# Altium schematic symbol library stm32.SchLib: 53 symbols
Pins are listed as number, name and electrical type; pins without a type are passive.

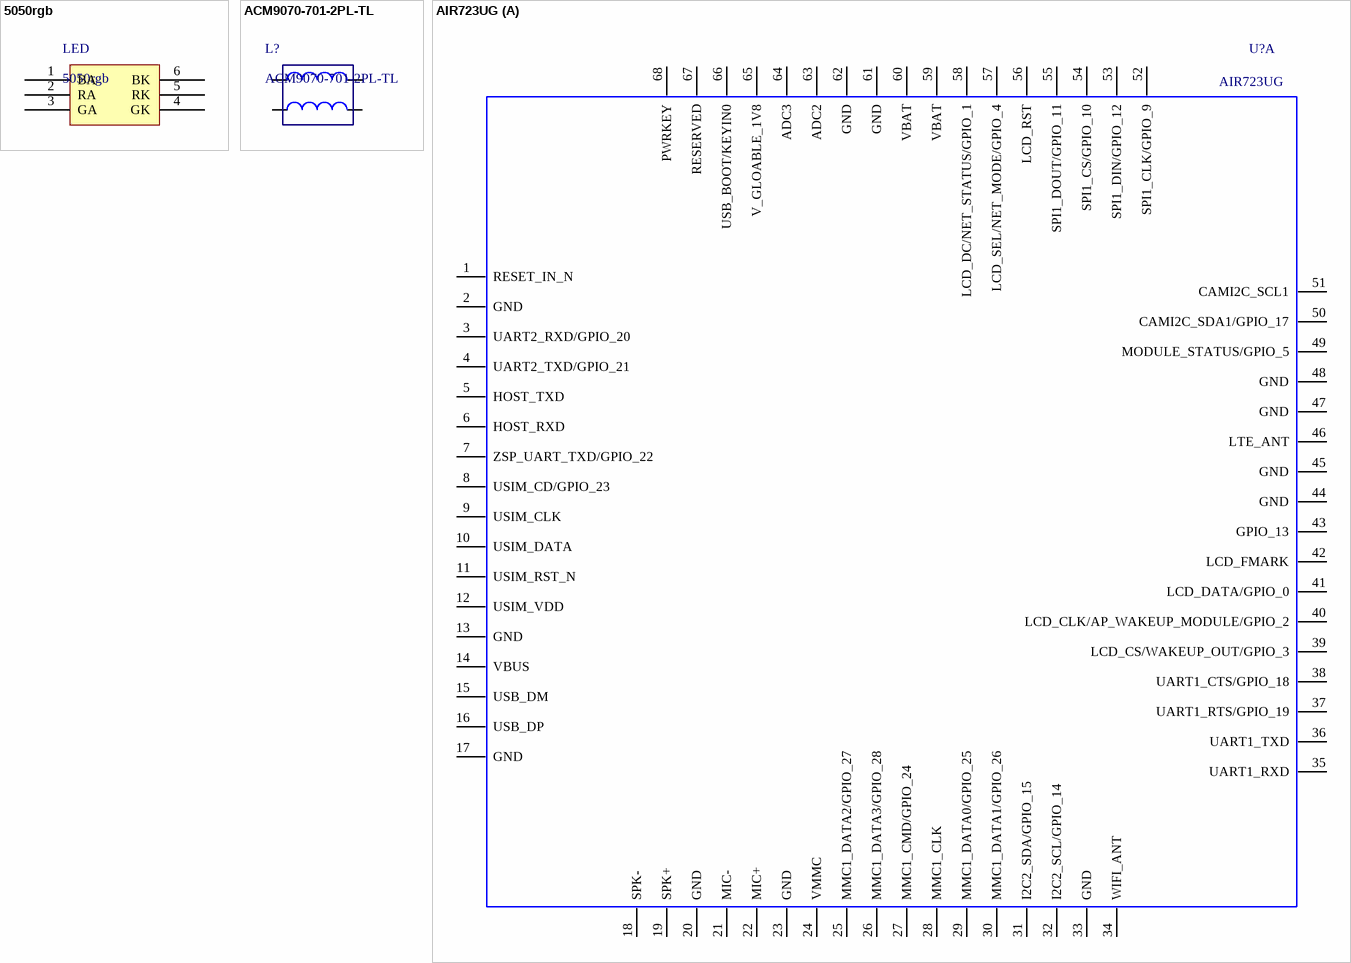
[diagram p0: symbols 5050rgb to AIR723UG]

## 5050rgb
designator LED
pins: 1 BA, 2 RA, 3 GA, 4 GK, 5 RK, 6 BK

## ACM9070-701-2PL-TL
designator L?
pins: 1, 2, 3, 4

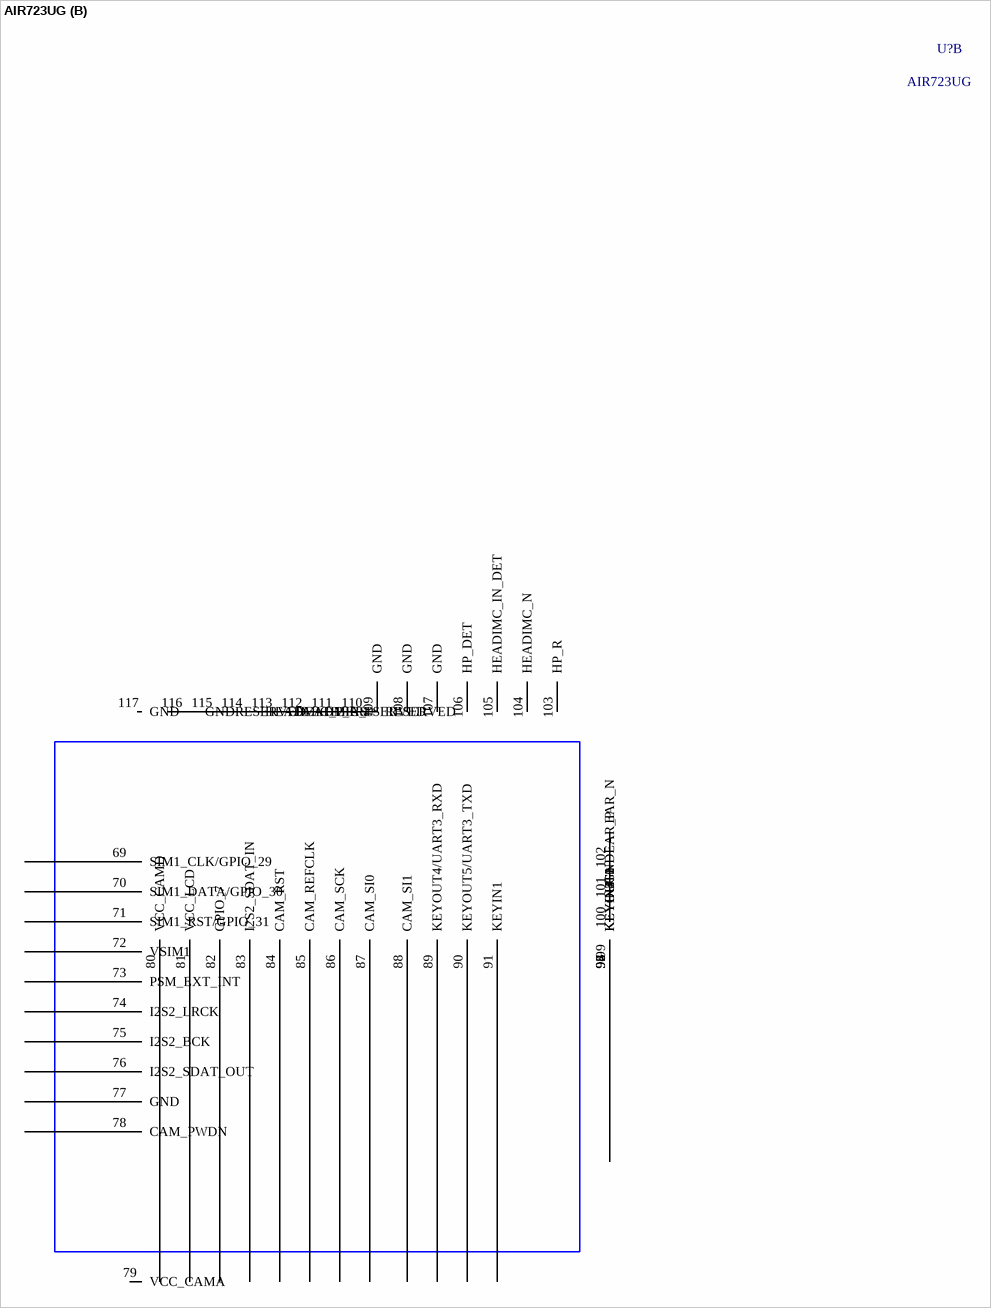
[diagram p1: symbol AIR723UG]

## AIR723UG
designator U?
Air723UG;23.0*23.0*2.3mm; Manufacture 1: AirM2M; Geometry.Height: 2.3mm; Manufacture 1 P/N: Air723UG; PCB DECAL: AIR723UG
part A pins: 1 RESET_IN_N, 2 GND, 3 UART2_RXD/GPIO_20, 4 UART2_TXD/GPIO_21, 5 HOST_TXD, 6 HOST_RXD, 7 ZSP_UART_TXD/GPIO_22, 8 USIM_CD/GPIO_23, 9 USIM_CLK, 10 USIM_DATA, 11 USIM_RST_N, 12 USIM_VDD, 13 GND, 14 VBUS, 15 USB_DM, 16 USB_DP, 17 GND, 18 SPK-, 19 SPK+, 20 GND, 21 MIC-, 22 MIC+, 23 GND, 24 VMMC, 25 MMC1_DATA2/GPIO_27, 26 MMC1_DATA3/GPIO_28, 27 MMC1_CMD/GPIO_24, 28 MMC1_CLK, 29 MMC1_DATA0/GPIO_25, 30 MMC1_DATA1/GPIO_26, 31 I2C2_SDA/GPIO_15, 32 I2C2_SCL/GPIO_14, 33 GND, 34 WIFI_ANT, 35 UART1_RXD, 36 UART1_TXD, 37 UART1_RTS/GPIO_19, 38 UART1_CTS/GPIO_18, 39 LCD_CS/WAKEUP_OUT/GPIO_3, 40 LCD_CLK/AP_WAKEUP_MODULE/GPIO_2, 41 LCD_DATA/GPIO_0, 42 LCD_FMARK, 43 GPIO_13, 44 GND, 45 GND, 46 LTE_ANT, 47 GND, 48 GND, 49 MODULE_STATUS/GPIO_5, 50 CAMI2C_SDA1/GPIO_17, 51 CAMI2C_SCL1, 52 SPI1_CLK/GPIO_9, 53 SPI1_DIN/GPIO_12, 54 SPI1_CS/GPIO_10, 55 SPI1_DOUT/GPIO_11, 56 LCD_RST, 57 LCD_SEL/NET_MODE/GPIO_4, 58 LCD_DC/NET_STATUS/GPIO_1, 59 VBAT, 60 VBAT, 61 GND, 62 GND, 63 ADC2, 64 ADC3, 65 V_GLOABLE_1V8, 66 USB_BOOT/KEYIN0, 67 RESERVED, 68 PWRKEY
part B pins: 69 SIM1_CLK/GPIO_29, 70 SIM1_DATA/GPIO_30, 71 SIM1_RST/GPIO_31, 72 VSIM1, 73 PSM_EXT_INT, 74 I2S2_LRCK, 75 I2S2_BCK, 76 I2S2_SDAT_OUT, 77 GND, 78 CAM_PWDN, 79 VCC_CAMA, 80 VCC_CAMD, 81 VCC_LCD, 82 GPIO_7, 83 I2S2_SDAT_IN, 84 CAM_RST, 85 CAM_REFCLK, 86 CAM_SCK, 87 CAM_SI0, 88 CAM_SI1, 89 KEYOUT4/UART3_RXD, 90 KEYOUT5/UART3_TXD, 91 KEYIN1, 92 KEYIN2, 93 KEYIN3, 94 KEYIN4, 95 KEYIN5, 96 KEYOUT0, 97 KEYOUT1, 98 KEYOUT2, 99 KEYOUT3, 100 GND, 101 EAR_P, 102 EAR_N, 103 HP_R, 104 HEADIMC_N, 105 HEADIMC_IN_DET, 106 HP_DET, 107 GND, 108 GND, 109 GND, 110 RESERVED, 111 RESERVED, 112 HP_L, 113 HEADMIC_P, 114 HEADMIC_BIAS, 115 RESERVED, 116 GND, 117 GND

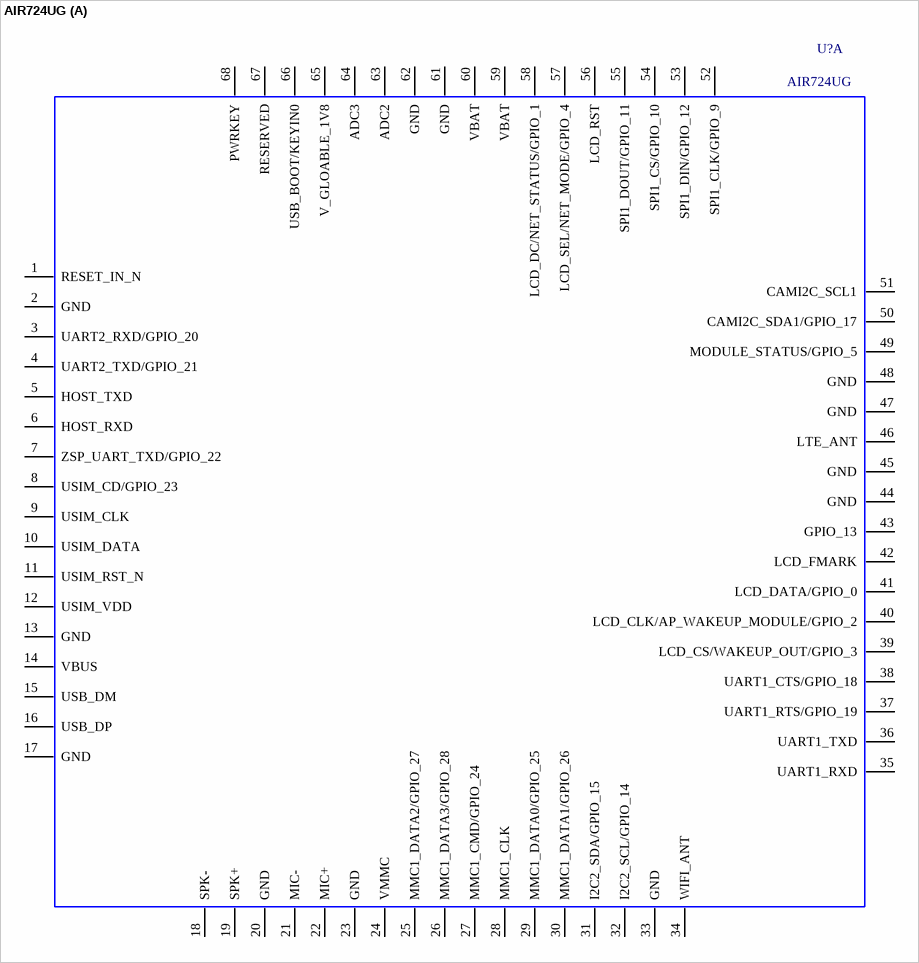
[diagram p2: symbol AIR724UG]

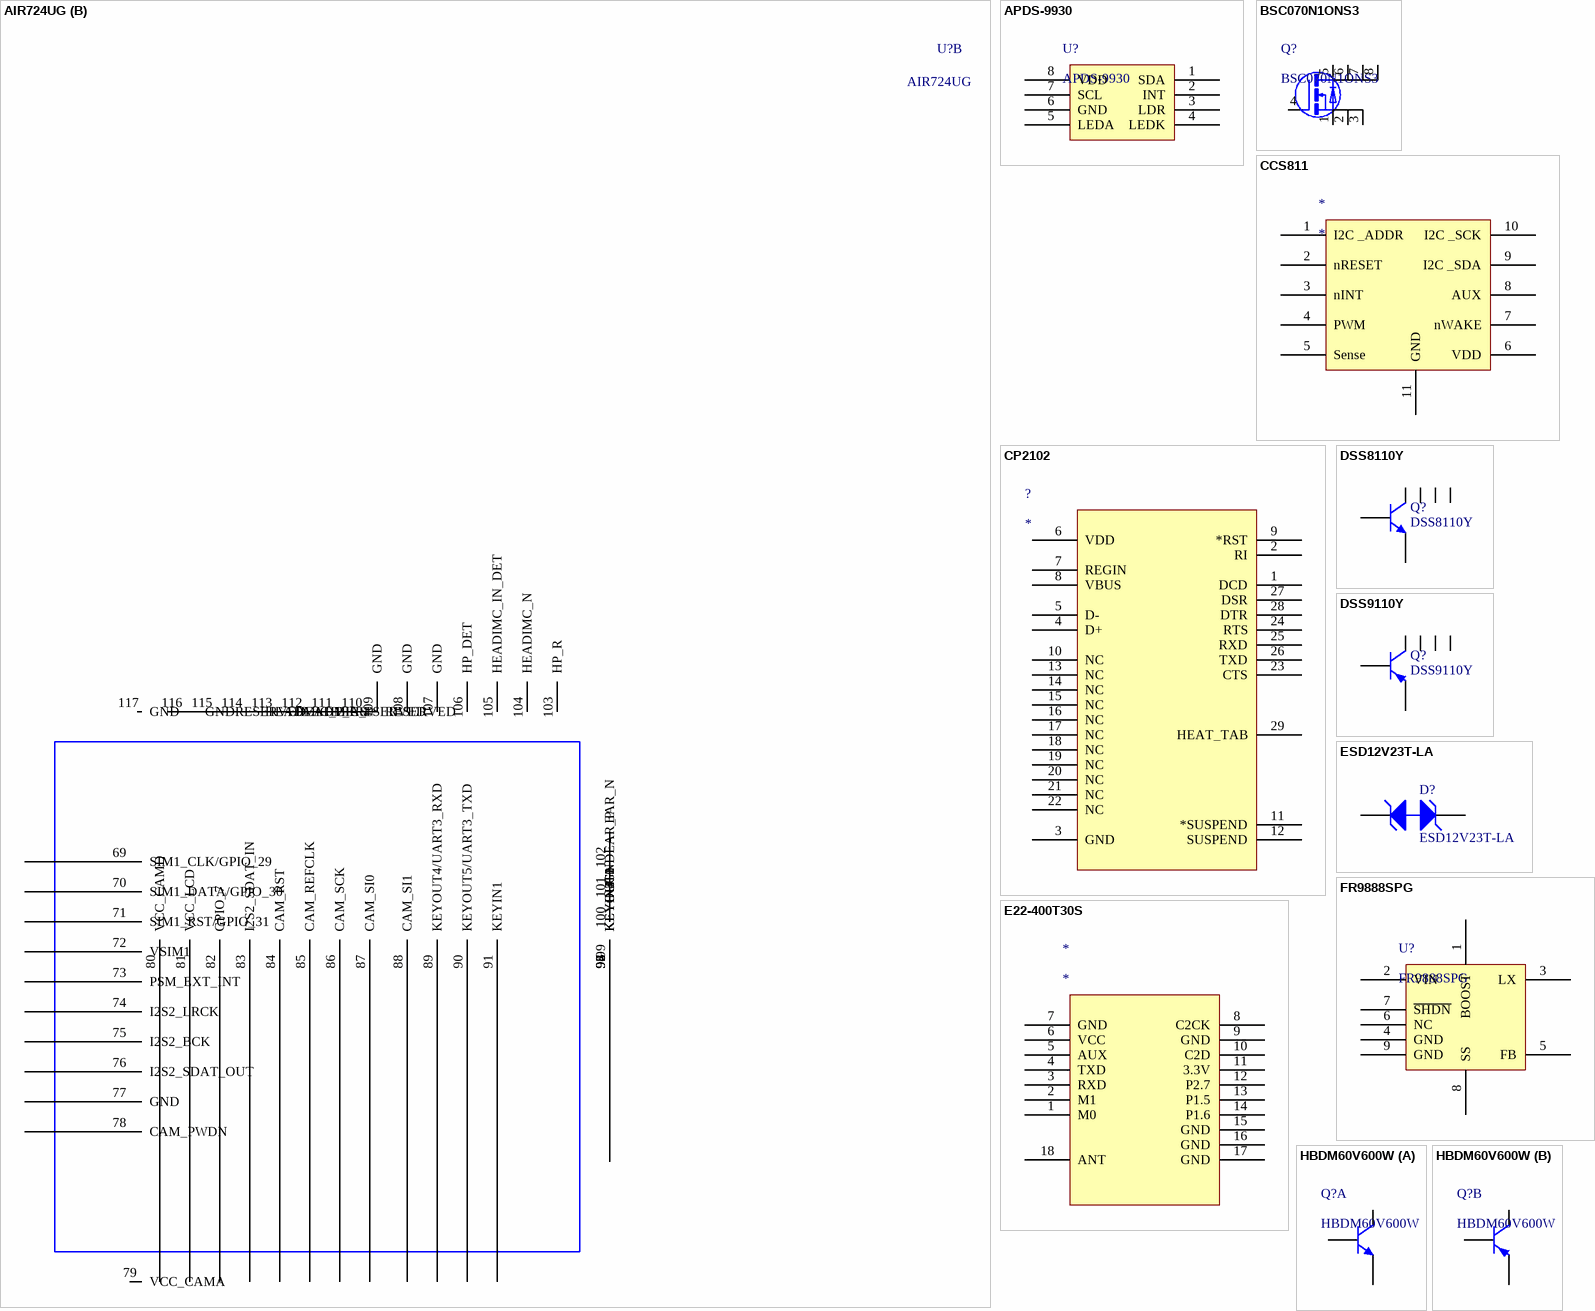
[diagram p3: symbols AIR724UG to HBDM60V600W]

## AIR724UG
designator U?
Manufacture 1: AirM2M; Geometry.Height: 2.3mm; Manufacture 1 P/N: Air724UG; Description: Air724UG; PCB DECAL: AIR724UG
part A pins: 1 RESET_IN_N, 2 GND, 3 UART2_RXD/GPIO_20, 4 UART2_TXD/GPIO_21, 5 HOST_TXD, 6 HOST_RXD, 7 ZSP_UART_TXD/GPIO_22, 8 USIM_CD/GPIO_23, 9 USIM_CLK, 10 USIM_DATA, 11 USIM_RST_N, 12 USIM_VDD, 13 GND, 14 VBUS, 15 USB_DM, 16 USB_DP, 17 GND, 18 SPK-, 19 SPK+, 20 GND, 21 MIC-, 22 MIC+, 23 GND, 24 VMMC, 25 MMC1_DATA2/GPIO_27, 26 MMC1_DATA3/GPIO_28, 27 MMC1_CMD/GPIO_24, 28 MMC1_CLK, 29 MMC1_DATA0/GPIO_25, 30 MMC1_DATA1/GPIO_26, 31 I2C2_SDA/GPIO_15, 32 I2C2_SCL/GPIO_14, 33 GND, 34 WIFI_ANT, 35 UART1_RXD, 36 UART1_TXD, 37 UART1_RTS/GPIO_19, 38 UART1_CTS/GPIO_18, 39 LCD_CS/WAKEUP_OUT/GPIO_3, 40 LCD_CLK/AP_WAKEUP_MODULE/GPIO_2, 41 LCD_DATA/GPIO_0, 42 LCD_FMARK, 43 GPIO_13, 44 GND, 45 GND, 46 LTE_ANT, 47 GND, 48 GND, 49 MODULE_STATUS/GPIO_5, 50 CAMI2C_SDA1/GPIO_17, 51 CAMI2C_SCL1, 52 SPI1_CLK/GPIO_9, 53 SPI1_DIN/GPIO_12, 54 SPI1_CS/GPIO_10, 55 SPI1_DOUT/GPIO_11, 56 LCD_RST, 57 LCD_SEL/NET_MODE/GPIO_4, 58 LCD_DC/NET_STATUS/GPIO_1, 59 VBAT, 60 VBAT, 61 GND, 62 GND, 63 ADC2, 64 ADC3, 65 V_GLOABLE_1V8, 66 USB_BOOT/KEYIN0, 67 RESERVED, 68 PWRKEY
part B pins: 69 SIM1_CLK/GPIO_29, 70 SIM1_DATA/GPIO_30, 71 SIM1_RST/GPIO_31, 72 VSIM1, 73 PSM_EXT_INT, 74 I2S2_LRCK, 75 I2S2_BCK, 76 I2S2_SDAT_OUT, 77 GND, 78 CAM_PWDN, 79 VCC_CAMA, 80 VCC_CAMD, 81 VCC_LCD, 82 GPIO_7, 83 I2S2_SDAT_IN, 84 CAM_RST, 85 CAM_REFCLK, 86 CAM_SCK, 87 CAM_SI0, 88 CAM_SI1, 89 KEYOUT4/UART3_RXD, 90 KEYOUT5/UART3_TXD, 91 KEYIN1, 92 KEYIN2, 93 KEYIN3, 94 KEYIN4, 95 KEYIN5, 96 KEYOUT0, 97 KEYOUT1, 98 KEYOUT2, 99 KEYOUT3, 100 GND, 101 EAR_P, 102 EAR_N, 103 HP_R, 104 HEADIMC_N, 105 HEADIMC_IN_DET, 106 HP_DET, 107 GND, 108 GND, 109 GND, 110 RESERVED, 111 RESERVED, 112 HP_L, 113 HEADMIC_P, 114 HEADMIC_BIAS, 115 RESERVED, 116 GND, 117 GND

## APDS-9930
designator U?
pins: 1 SDA, 2 INT, 3 LDR, 4 LEDK, 5 LEDA, 6 GND, 7 SCL, 8 VDD

## BSC070N1ONS3
designator Q?
pins: 1 D, 2 D, 3 D, 4 G, 5 S, 6 D, 7 D1, 8 D1

## CCS811
designator *
footprint QFN60P270X400X80-10N (QFN, 10-Leads, Body 4.0x2.7mm (max), Pitch 0.60mm, IPC Medium Density)
pins: 1 I2C _ADDR, 2 nRESET, 3 nINT, 4 PWM, 5 Sense, 6 VDD, 7 nWAKE, 8 AUX, 9 I2C _SDA, 10 I2C _SCK, 11 GND

## CP2102
designator ?
Imported; PART DESC: SINGLE-CHIP USB TO UART BRIDGE, QFN28, RoHS.; PART NUMBER: CP2102; MFG #1: SILICON LABS; Value: Value; RefDes: RefDes; Type: DEV
footprint QFN28N5X5-0p5P-L
pins: 1 DCD, 2 RI, 3 GND, 4 D+, 5 D-, 6 VDD, 7 REGIN, 8 VBUS, 9 *RST, 10 NC, 11 *SUSPEND, 12 SUSPEND, 13 NC, 14 NC, 15 NC, 16 NC, 17 NC, 18 NC, 19 NC, 20 NC, 21 NC, 22 NC, 23 CTS, 24 RTS, 25 RXD, 26 TXD, 27 DSR, 28 DTR, 29 HEAT_TAB

## DSS8110Y
designator Q?
NPN Bipolar Transistor; Published: 8-Jun-2000; LatestRevisionDate: 17-Jul-2002; LatestRevisionNote: Re-released for DXP Platform.; PackageReference: TO-226; Publisher: Altium Limited; Code_JEDEC: TO-226-AA
footprint SOT363
simulation model NPN
signal-integrity model NPN
pins: 1 C, 2 C, 3 B, 4 E, 5 C, 6 C

## DSS9110Y
designator Q?
NPN Bipolar Transistor; Published: 8-Jun-2000; LatestRevisionDate: 17-Jul-2002; LatestRevisionNote: Re-released for DXP Platform.; PackageReference: TO-226; Publisher: Altium Limited; Code_JEDEC: TO-226-AA
footprint SOT363
simulation model NPN
signal-integrity model NPN
pins: 1 C, 2 C, 3 B, 4 E, 5 C, 6 C

## E22-400T30S
designator *
pins: 1 M0, 2 M1, 3 RXD, 4 TXD, 5 AUX, 6 VCC, 7 GND, 8 C2CK, 9 GND, 10 C2D, 11 3.3V, 12 P2.7, 13 P1.5, 14 P1.6, 15 GND, 16 GND, 17 GND, 18 ANT

## ESD12V23T-LA
designator D?
Published: 8-Jun-2000; LatestRevisionDate: 17-Jul-2002; LatestRevisionNote: Re-released for DXP Platform.; PackageReference: DIODE-0.7; Publisher: Altium Limited
footprint DIODE-0.7 (Diode, Thru-Hole; 2 Leads; 0.7 in Pin Spacing)
simulation model ZENER (Diode)
signal-integrity model D Zener
pins: 1 A, 2 K

## FR9888SPG
designator U?
footprint SOP8
pins: 1 BOOST, 2 VIN, 3 LX, 4 GND, 5 FB, 6 NC, 7 ~{SHDN}, 8 SS, 9 GND

## HBDM60V600W
designator Q?
part A pins: 1 E, 2 B, 6 C
part B pins: 3 C, 4 E, 5 B

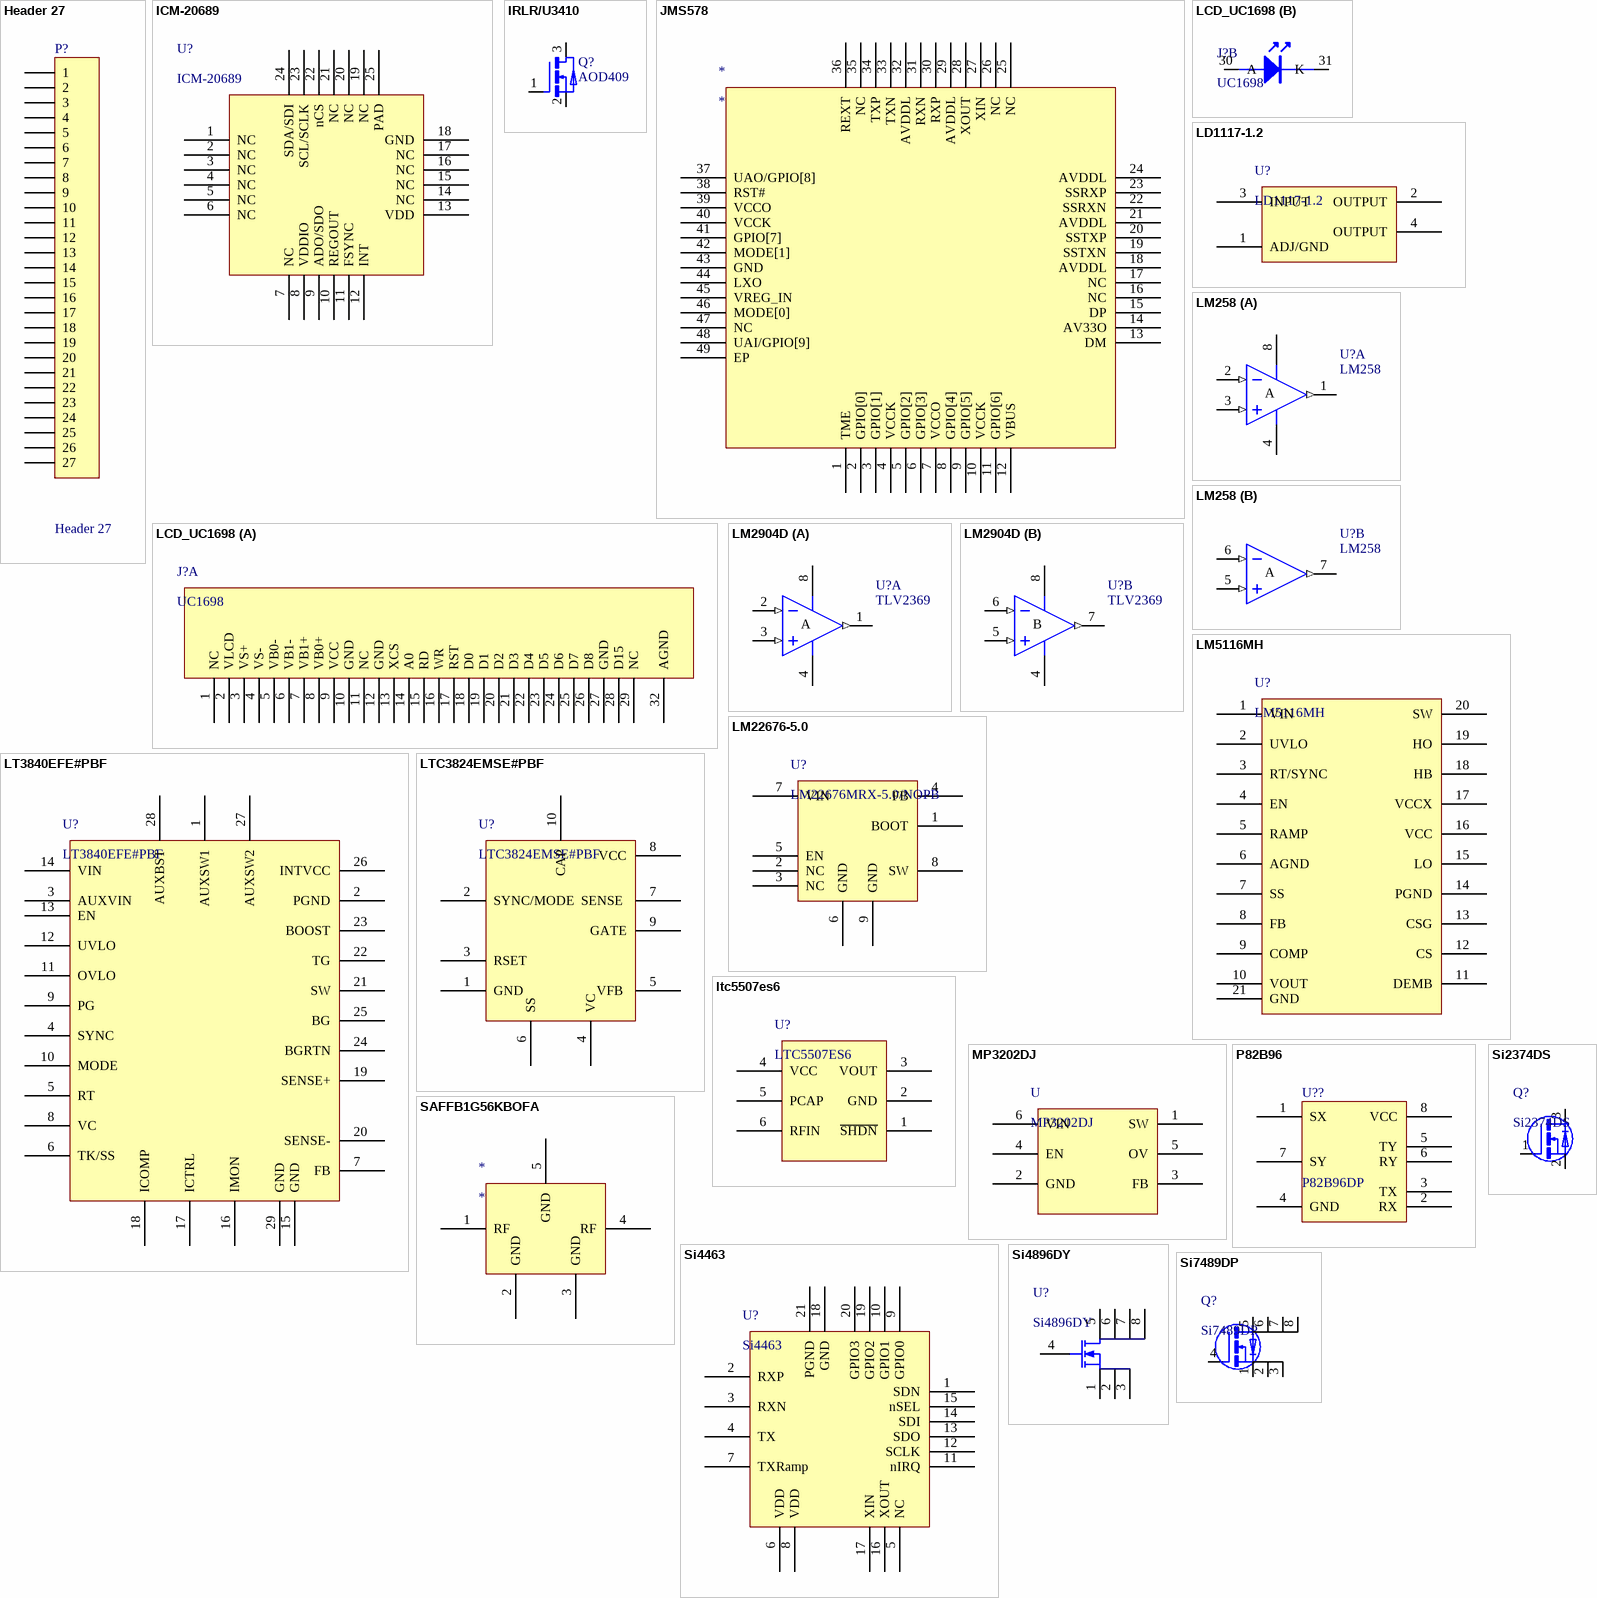
[diagram p4: symbols Header 27 to Si7489DP]

## Header 27
designator P?
Header, 27-Pin; LatestRevisionDate: 17-Jul-2002; LatestRevisionNote: Re-released for DXP Platform.; Publisher: Altium Limited
footprint Hearder2 27
signal-integrity model Connector
pins: 1, 2, 3, 4, 5, 6, 7, 8, 9, 10, 11, 12, 13, 14, 15, 16, 17, 18, 19, 20, 21, 22, 23, 24, 25, 26, 27

## ICM-20689
designator U?
pins: 1 NC, 2 NC, 3 NC, 4 NC, 5 NC, 6 NC, 7 NC, 8 VDDIO, 9 ADO/SDO, 10 REGOUT, 11 FSYNC, 12 INT, 13 VDD, 14 NC, 15 NC, 16 NC, 17 NC, 18 GND, 19 NC, 20 NC, 21 NC, 22 nCS, 23 SCL/SCLK, 24 SDA/SDI, 25 PAD

## IRLR/U3410
designator Q?, comment AOD409
footprint TO252(123)
pins: 1 G, 2 D, 3 S

## JMS578
designator *
pins: 1 TME, 2 GPIO[0], 3 GPIO[1], 4 VCCK, 5 GPIO[2], 6 GPIO[3], 7 VCCO, 8 GPIO[4] , 9 GPIO[5] , 10 VCCK, 11 GPIO[6] , 12 VBUS, 13 DM, 14 AV33O, 15 DP, 16 NC, 17 NC, 18 AVDDL, 19 SSTXN, 20 SSTXP, 21 AVDDL, 22 SSRXN, 23 SSRXP, 24 AVDDL, 25 NC, 26 NC, 27 XIN, 28 XOUT, 29 AVDDL, 30 RXP, 31 RXN, 32 AVDDL, 33 TXN, 34 TXP, 35 NC, 36 REXT, 37 UAO/GPIO[8] , 38 RST#, 39 VCCO, 40 VCCK, 41 GPIO[7] , 42 MODE[1] , 43 GND, 44 LXO, 45 VREG_IN, 46 MODE[0] , 47 NC , 48 UAI/GPIO[9] , 49 EP

## LCD_UC1698
designator J?, comment UC1698
part A pins: 1 NC, 2 VLCD, 3 VS+, 4 VS-, 5 VB0-, 6 VB1-, 7 VB1+, 8 VB0+, 9 VCC, 10 GND, 11 NC, 12 GND, 13 XCS, 14 A0, 15 RD, 16 WR, 17 RST, 18 D0, 19 D1, 20 D2, 21 D3, 22 D4, 23 D5, 24 D6, 25 D7, 26 D8, 27 GND, 28 D15, 29 NC, 32 AGND
part B pins: 30 A, 31 K

## LD1117-1.2
designator U?
footprint TO252 (DPAK)
pins: 1 ADJ/GND, 2 OUTPUT, 3 INPUT, 4 OUTPUT

## LM258
designator U?
footprint so-8
part A pins: 1 OUT (out), 2 IN- (in), 3 IN+ (in), 4 V- (power), 8 V+ (power)
part B pins: 5 IN+ (in), 6 IN- (in), 7 OUT (out)
part A text: A
part B text: A

## LM2904D
designator U?, comment TLV2369
Dual Operational Amplifier; Published: 16-Jan-2001; LatestRevisionDate: 13-Apr-2006; LatestRevisionNote: IPC-7351 Footprint Added.; DatasheetVersion: Jul-1998; PackageVersion: Jan-1998; PackageReference: D008; Publisher: Altium Limited; PackageDescription: 8-Pin Small Outline Integrated Circuit 1.27 mm Pitch; Code_IPC: SOIC127P600-8; ComponentLink1Description: Manufacturer Link; ComponentLink1URL: http://www.ti.com/; ComponentLink2Description: Datasheet; ComponentLink2URL: http://www-s.ti.com/sc/ds/lm2904.pdf
footprint so-8
footprint D008_M (SOIC, 8-Leads, Body 4.9x3.9mm, Pitch 1.27mm, IPC Low Density)
footprint D008_M (SOIC, 8-Leads, Body 4.9x3.9mm, Pitch 1.27mm, IPC Low Density)
3D model D008 (8-Pin Small Outline Integrated Circuit 1.27 mm Pitch)
simulation model LM2904 (SUBCKT)
pins on every part: 4 V- (power), 8 V+ (power)
part A pins: 1 OUT (out), 2 IN- (in), 3 IN+ (in)
part B pins: 5 IN+ (in), 6 IN- (in), 7 OUT (out)
part A text: A
part B text: B

## LM5116MH
designator U?
footprint tssop (Footprint not found)
pins: 1 VIN, 2 UVLO, 3 RT/SYNC, 4 EN, 5 RAMP, 6 AGND, 7 SS, 8 FB, 9 COMP, 10 VOUT, 11 DEMB, 12 CS, 13 CSG, 14 PGND, 15 LO, 16 VCC, 17 VCCX, 18 HB, 19 HO, 20 SW, 21 GND

## LM22676-5.0
designator U?, comment LM22676MRX-5.0/NOPB
pins: 1 BOOT, 2 NC, 3 NC, 4 FB, 5 EN, 6 GND, 7 VIN, 8 SW, 9 GND

## LT3840EFE#PBF
designator U?
pins: 1 AUXSW1, 2 PGND, 3 AUXVIN, 4 SYNC, 5 RT, 6 TK/SS, 7 FB, 8 VC, 9 PG, 10 MODE, 11 OVLO, 12 UVLO, 13 EN, 14 VIN, 15 GND, 16 IMON, 17 ICTRL, 18 ICOMP, 19 SENSE+, 20 SENSE-, 21 SW, 22 TG, 23 BOOST, 24 BGRTN, 25 BG, 26 INTVCC, 27 AUXSW2, 28 AUXBST, 29 GND

## LTC3824EMSE#PBF
designator U?
footprint MSOP-10
pins: 1 GND , 2 SYNC/MODE, 3 RSET , 4 VC , 5 VFB , 6 SS, 7 SENSE , 8 VCC, 9 GATE, 10 CAP

## ltc5507es6
designator U?, comment LTC5507ES6
pins: 1 ~{SHDN}, 2 GND, 3 VOUT, 4 VCC, 5 PCAP, 6 RFIN

## MP3202DJ
designator U
footprint SOT23-6 (Footprint not found)
pins: 1 SW, 2 GND, 3 FB, 4 EN, 5 OV, 6 VIN

## P82B96
designator U??, comment P82B96DP
pins: 1 SX, 2 RX, 3 TX, 4 GND, 5 TY, 6 RY, 7 SY, 8 VCC

## SAFFB1G56KBOFA
designator *
pins: 1 RF, 2 GND, 3 GND, 4 RF, 5 GND

## Si2374DS
designator Q?
footprint SOT23-3
pins: 1 G, 2 S, 3 D

## Si4463
designator U?
footprint QFN50P400X400X80-20N (QFN, 20-Leads, Body 4.0x4.0mm (max), Pitch 0.50mm, IPC Medium Density)
pins: 1 SDN, 2 RXP, 3 RXN, 4 TX, 5 NC, 6 VDD, 7 TXRamp, 8 VDD, 9 GPIO0, 10 GPIO1, 11 nIRQ, 12 SCLK, 13 SDO, 14 SDI, 15 nSEL, 16 XOUT, 17 XIN, 18 GND, 19 GPIO2, 20 GPIO3, 21 PGND

## Si4896DY
designator U?
pins: 1 S, 2 S, 3 S, 4 G, 5 D, 6 S, 7 S, 8 S

## Si7489DP
designator Q?
pins: 1 S, 2 S, 3 S, 4 G, 5 D, 6 D, 7 D, 8 D

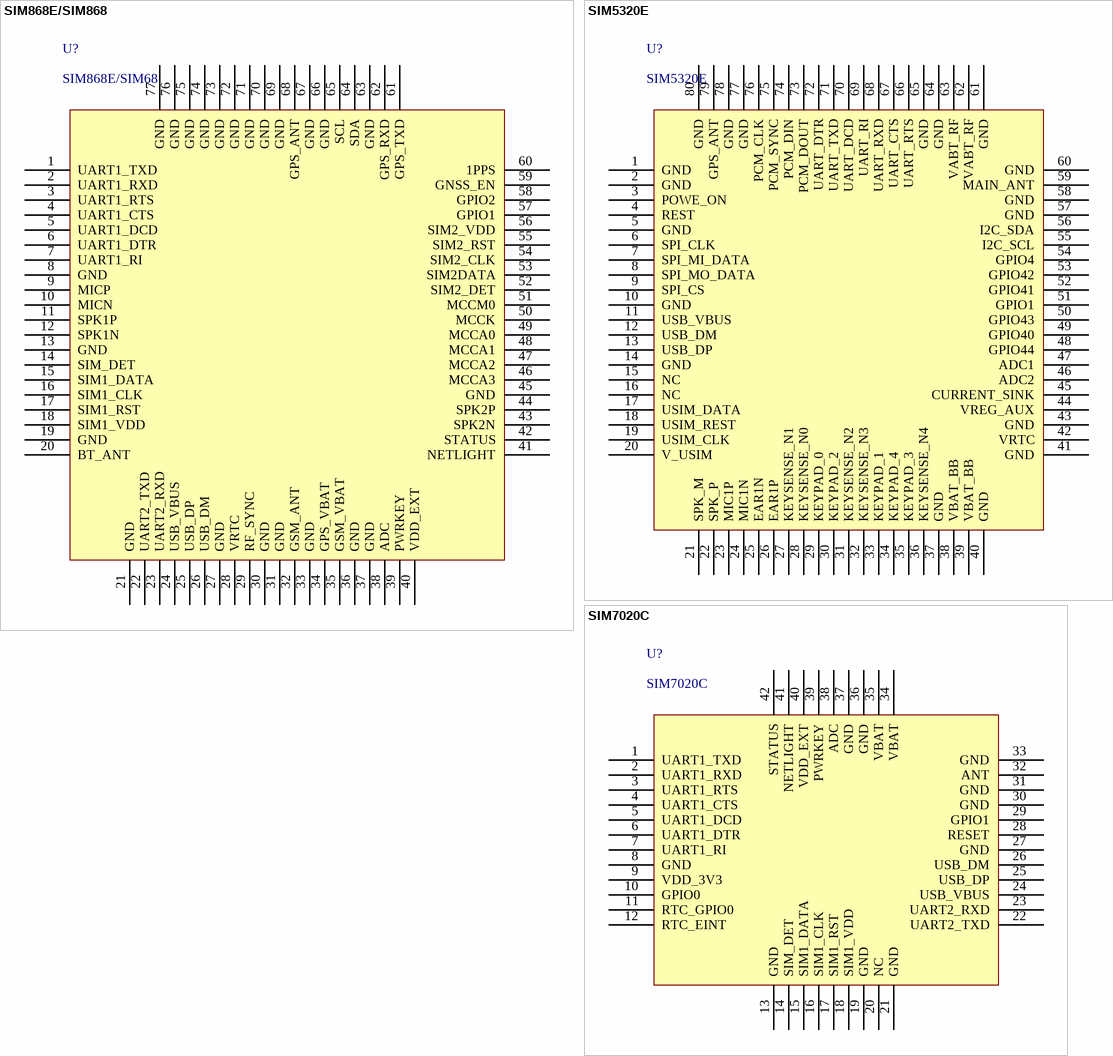
[diagram p5: symbols SIM868E/SIM868 to SIM7020C]

## SIM868E/SIM868
designator U?, comment SIM868E/SIM68
footprint SIM868 (Footprint not found)
pins: 1 UART1_TXD, 2 UART1_RXD, 3 UART1_RTS, 4 UART1_CTS, 5 UART1_DCD, 6 UART1_DTR, 7 UART1_RI, 8 GND, 9 MICP, 10 MICN, 11 SPK1P, 12 SPK1N, 13 GND, 14 SIM_DET, 15 SIM1_DATA, 16 SIM1_CLK, 17 SIM1_RST, 18 SIM1_VDD, 19 GND, 20 BT_ANT, 21 GND, 22 UART2_TXD, 23 UART2_RXD, 24 USB_VBUS, 25 USB_DP, 26 USB_DM, 27 GND, 28 VRTC, 29 RF_SYNC, 30 GND, 31 GND, 32 GSM_ANT, 33 GND, 34 GPS_VBAT, 35 GSM_VBAT, 36 GND, 37 GND, 38 ADC, 39 PWRKEY, 40 VDD_EXT, 41 NETLIGHT, 42 STATUS, 43 SPK2N, 44 SPK2P, 45 GND, 46 MCCA3, 47 MCCA2, 48 MCCA1, 49 MCCA0, 50 MCCK, 51 MCCM0, 52 SIM2_DET, 53 SIM2DATA, 54 SIM2_CLK, 55 SIM2_RST, 56 SIM2_VDD, 57 GPIO1, 58 GPIO2, 59 GNSS_EN, 60 1PPS, 61 GPS_TXD, 62 GPS_RXD, 63 GND, 64 SDA, 65 SCL, 66 GND, 67 GND, 68 GPS_ANT, 69 GND, 70 GND, 71 GND, 72 GND, 73 GND, 74 GND, 75 GND, 76 GND, 77 GND

## SIM5320E
designator U?
pins: 1 GND, 2 GND, 3 POWE_ON, 4 REST, 5 GND, 6 SPI_CLK, 7 SPI_MI_DATA, 8 SPI_MO_DATA, 9 SPI_CS, 10 GND, 11 USB_VBUS, 12 USB_DM, 13 USB_DP, 14 GND, 15 NC, 16 NC, 17 USIM_DATA, 18 USIM_REST, 19 USIM_CLK, 20 V_USIM, 21 SPK_M, 22 SPK_P, 23 MIC1P, 24 MIC1N, 25 EAR1N, 26 EAR1P, 27 KEYSENSE_N1, 28 KEYSENSE_N0, 29 KEYPAD_0, 30 KEYPAD_2, 31 KEYSENSE_N2, 32 KEYSENSE_N3, 33 KEYPAD_1, 34 KEYPAD_4, 35 KEYPAD_3, 36 KEYSENSE_N4, 37 GND, 38 VBAT_BB, 39 VBAT_BB, 40 GND, 41 GND, 42 VRTC, 43 GND, 44 VREG_AUX, 45 CURRENT_SINK, 46 ADC2, 47 ADC1, 48 GPIO44, 49 GPIO40, 50 GPIO43, 51 GPIO1, 52 GPIO41, 53 GPIO42, 54 GPIO4, 55 I2C_SCL, 56 I2C_SDA, 57 GND, 58 GND, 59 MAIN_ANT, 60 GND, 61 GND, 62 VABT_RF, 63 VABT_RF, 64 GND, 65 GND, 66 UART_RTS, 67 UART_CTS, 68 UART_RXD, 69 UART_RI, 70 UART_DCD, 71 UART_TXD, 72 UART_DTR, 73 PCM_DOUT, 74 PCM_DIN, 75 PCM_SYNC, 76 PCM_CLK, 77 GND, 78 GND, 79 GPS_ANT, 80 GND

## SIM7020C
designator U?
footprint SIM868 (Footprint not found)
pins: 1 UART1_TXD, 2 UART1_RXD, 3 UART1_RTS, 4 UART1_CTS, 5 UART1_DCD, 6 UART1_DTR, 7 UART1_RI, 8 GND, 9 VDD_3V3, 10 GPIO0, 11 RTC_GPIO0, 12 RTC_EINT, 13 GND, 14 SIM_DET, 15 SIM1_DATA, 16 SIM1_CLK, 17 SIM1_RST, 18 SIM1_VDD, 19 GND, 20 NC, 21 GND, 22 UART2_TXD, 23 UART2_RXD, 24 USB_VBUS, 25 USB_DP, 26 USB_DM, 27 GND, 28 RESET, 29 GPIO1, 30 GND, 31 GND, 32 ANT, 33 GND, 34 VBAT, 35 VBAT, 36 GND, 37 GND, 38 ADC, 39 PWRKEY, 40 VDD_EXT, 41 NETLIGHT, 42 STATUS

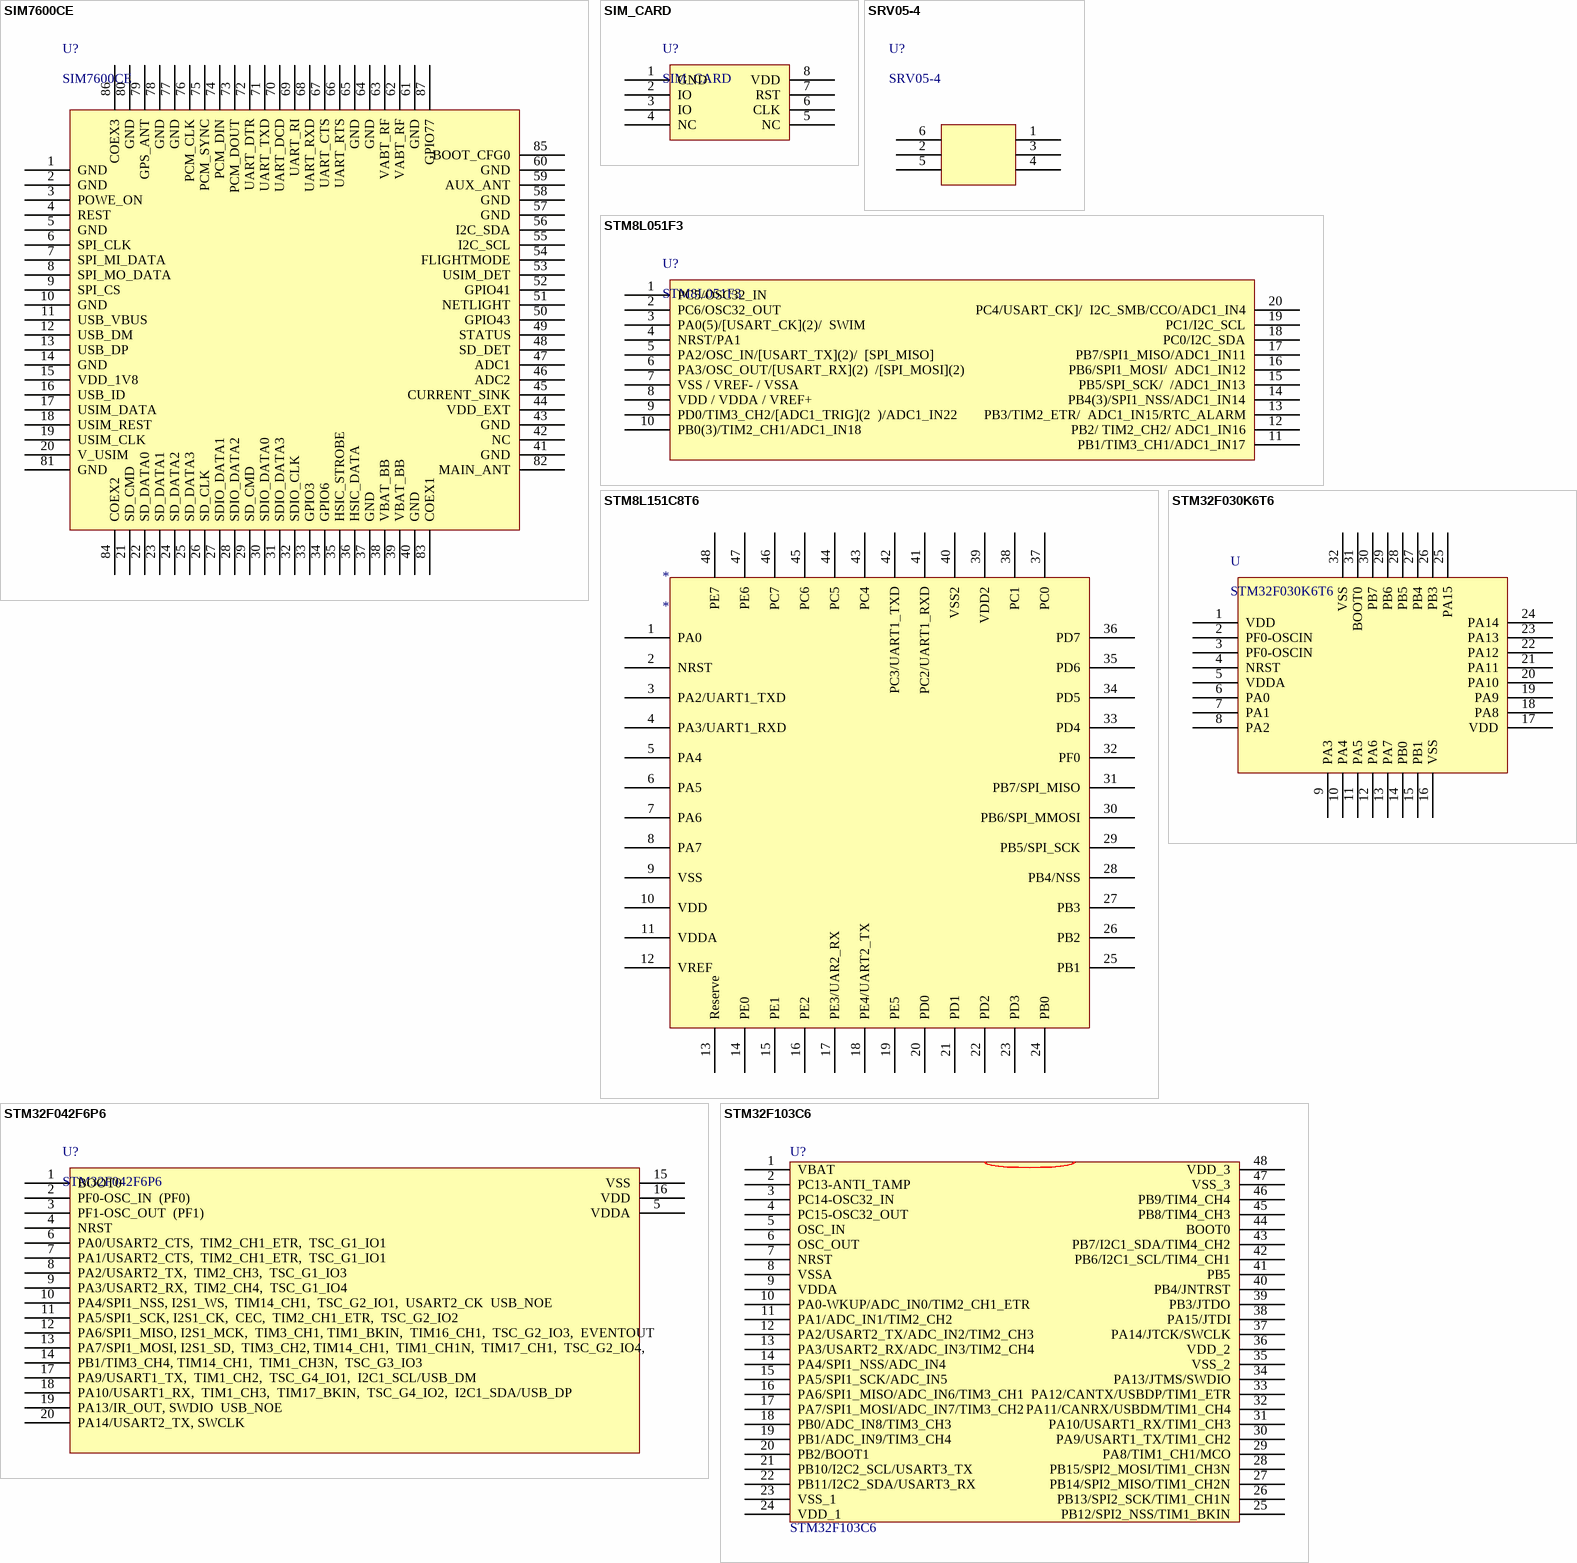
[diagram p6: symbols SIM7600CE to STM32F103C6]

## SIM7600CE
designator U?
pins: 1 GND, 2 GND, 3 POWE_ON, 4 REST, 5 GND, 6 SPI_CLK, 7 SPI_MI_DATA, 8 SPI_MO_DATA, 9 SPI_CS, 10 GND, 11 USB_VBUS, 12 USB_DM, 13 USB_DP, 14 GND, 15 VDD_1V8, 16 USB_ID, 17 USIM_DATA, 18 USIM_REST, 19 USIM_CLK, 20 V_USIM, 21 SD_CMD, 22 SD_DATA0, 23 SD_DATA1, 24 SD_DATA2, 25 SD_DATA3, 26 SD_CLK, 27 SDIO_DATA1, 28 SDIO_DATA2, 29 SD_CMD, 30 SDIO_DATA0, 31 SDIO_DATA3, 32 SDIO_CLK, 33 GPIO3, 34 GPIO6, 35 HSIC_STROBE, 36 HSIC_DATA, 37 GND, 38 VBAT_BB, 39 VBAT_BB, 40 GND, 41 GND, 42 NC, 43 GND, 44 VDD_EXT, 45 CURRENT_SINK, 46 ADC2, 47 ADC1, 48 SD_DET, 49 STATUS, 50 GPIO43, 51 NETLIGHT, 52 GPIO41, 53 USIM_DET, 54 FLIGHTMODE, 55 I2C_SCL, 56 I2C_SDA, 57 GND, 58 GND, 59 AUX_ANT, 60 GND, 61 GND, 62 VABT_RF, 63 VABT_RF, 64 GND, 65 GND, 66 UART_RTS, 67 UART_CTS, 68 UART_RXD, 69 UART_RI, 70 UART_DCD, 71 UART_TXD, 72 UART_DTR, 73 PCM_DOUT, 74 PCM_DIN, 75 PCM_SYNC, 76 PCM_CLK, 77 GND, 78 GND, 79 GPS_ANT, 80 GND, 81 GND, 82 MAIN_ANT, 83 COEX1, 84 COEX2, 85 BOOT_CFG0, 86 COEX3, 87 GPIO77

## SIM_CARD
designator U?
pins: 1 GND, 2 IO, 3 IO, 4 NC, 5 NC, 6 CLK, 7 RST, 8 VDD

## SRV05-4
designator U?
pins: 1, 2, 3, 4, 5, 6

## STM8L051F3
designator U?
pins: 1 PC5/OSC32_IN , 2 PC6/OSC32_OUT, 3 PA0(5)/[USART_CK](2)/  SWIM, 4 NRST/PA1, 5 PA2/OSC_IN/[USART_TX](2)/  [SPI_MISO], 6 PA3/OSC_OUT/[USART_RX](2)  /[SPI_MOSI](2), 7 VSS / VREF- / VSSA, 8 VDD / VDDA / VREF+, 9 PD0/TIM3_CH2/[ADC1_TRIG](2  )/ADC1_IN22, 10 PB0(3)/TIM2_CH1/ADC1_IN18, 11 PB1/TIM3_CH1/ADC1_IN17, 12 PB2/ TIM2_CH2/ ADC1_IN16, 13 PB3/TIM2_ETR/  ADC1_IN15/RTC_ALARM, 14 PB4(3)/SPI1_NSS/ADC1_IN14, 15 PB5/SPI_SCK/  /ADC1_IN13, 16 PB6/SPI1_MOSI/  ADC1_IN12, 17 PB7/SPI1_MISO/ADC1_IN11, 18 PC0/I2C_SDA, 19 PC1/I2C_SCL, 20 PC4/USART_CK]/  I2C_SMB/CCO/ADC1_IN4

## STM8L151C8T6
designator *
pins: 1 PA0, 2 NRST, 3 PA2/UART1_TXD, 4 PA3/UART1_RXD, 5 PA4, 6 PA5, 7 PA6, 8 PA7, 9 VSS, 10 VDD, 11 VDDA, 12 VREF, 13 Reserve, 14 PE0, 15 PE1, 16 PE2, 17 PE3/UAR2_RX, 18 PE4/UART2_TX, 19 PE5, 20 PD0, 21 PD1, 22 PD2, 23 PD3, 24 PB0, 25 PB1, 26 PB2, 27 PB3, 28 PB4/NSS, 29 PB5/SPI_SCK, 30 PB6/SPI_MMOSI, 31 PB7/SPI_MISO, 32 PF0, 33 PD4, 34 PD5, 35 PD6, 36 PD7, 37 PC0, 38 PC1, 39 VDD2, 40 VSS2, 41 PC2/UART1_RXD, 42 PC3/UART1_TXD, 43 PC4, 44 PC5, 45 PC6, 46 PC7, 47 PE6, 48 PE7

## STM32F030K6T6
designator U
footprint LQFP-32 (Footprint not found)
pins: 1 VDD, 2 PF0-OSCIN, 3 PF0-OSCIN, 4 NRST, 5 VDDA, 6 PA0, 7 PA1, 8 PA2, 9 PA3, 10 PA4, 11 PA5, 12 PA6, 13 PA7, 14 PB0, 15 PB1, 16 VSS, 17 VDD, 18 PA8, 19 PA9, 20 PA10, 21 PA11, 22 PA12, 23 PA13, 24 PA14, 25 PA15, 26 PB3, 27 PB4, 28 PB5, 29 PB6, 30 PB7, 31 BOOT0, 32 VSS

## STM32F042F6P6
designator U?
footprint TSSOP20 (Footprint not found)
pins: 1 BOOT0, 2 PF0-OSC_IN  (PF0), 3 PF1-OSC_OUT  (PF1), 4 NRST, 5 VDDA, 6 PA0/USART2_CTS,  TIM2_CH1_ETR,  TSC_G1_IO1, 7 PA1/USART2_CTS,  TIM2_CH1_ETR,  TSC_G1_IO1, 8 PA2/USART2_TX,  TIM2_CH3,  TSC_G1_IO3, 9 PA3/USART2_RX,  TIM2_CH4,  TSC_G1_IO4, 10 PA4/SPI1_NSS, I2S1_WS,  TIM14_CH1,  TSC_G2_IO1,  USART2_CK  USB_NOE, 11 PA5/SPI1_SCK, I2S1_CK,  CEC,  TIM2_CH1_ETR,  TSC_G2_IO2, 12 PA6/SPI1_MISO, I2S1_MCK,  TIM3_CH1, TIM1_BKIN,  TIM16_CH1,  TSC_G2_IO3,  EVENTOUT, 13 PA7/SPI1_MOSI, I2S1_SD,  TIM3_CH2, TIM14_CH1,  TIM1_CH1N,  TIM17_CH1,  TSC_G2_IO4,, 14 PB1/TIM3_CH4, TIM14_CH1,  TIM1_CH3N,  TSC_G3_IO3, 15 VSS, 16 VDD, 17 PA9/USART1_TX,  TIM1_CH2,  TSC_G4_IO1,  I2C1_SCL/USB_DM, 18 PA10/USART1_RX,  TIM1_CH3,  TIM17_BKIN,  TSC_G4_IO2,  I2C1_SDA/USB_DP, 19 PA13/IR_OUT, SWDIO  USB_NOE, 20 PA14/USART2_TX, SWCLK

## STM32F103C6
designator U?
footprint LQFP48S (DPIN-0.5)
pins: 1 VBAT, 2 PC13-ANTI_TAMP, 3 PC14-OSC32_IN, 4 PC15-OSC32_OUT, 5 OSC_IN, 6 OSC_OUT, 7 NRST, 8 VSSA, 9 VDDA, 10 PA0-WKUP/ADC_IN0/TIM2_CH1_ETR, 11 PA1/ADC_IN1/TIM2_CH2, 12 PA2/USART2_TX/ADC_IN2/TIM2_CH3, 13 PA3/USART2_RX/ADC_IN3/TIM2_CH4, 14 PA4/SPI1_NSS/ADC_IN4, 15 PA5/SPI1_SCK/ADC_IN5, 16 PA6/SPI1_MISO/ADC_IN6/TIM3_CH1, 17 PA7/SPI1_MOSI/ADC_IN7/TIM3_CH2, 18 PB0/ADC_IN8/TIM3_CH3, 19 PB1/ADC_IN9/TIM3_CH4, 20 PB2/BOOT1, 21 PB10/I2C2_SCL/USART3_TX, 22 PB11/I2C2_SDA/USART3_RX, 23 VSS_1, 24 VDD_1, 25 PB12/SPI2_NSS/TIM1_BKIN, 26 PB13/SPI2_SCK/TIM1_CH1N, 27 PB14/SPI2_MISO/TIM1_CH2N, 28 PB15/SPI2_MOSI/TIM1_CH3N, 29 PA8/TIM1_CH1/MCO, 30 PA9/USART1_TX/TIM1_CH2, 31 PA10/USART1_RX/TIM1_CH3, 32 PA11/CANRX/USBDM/TIM1_CH4, 33 PA12/CANTX/USBDP/TIM1_ETR, 34 PA13/JTMS/SWDIO, 35 VSS_2, 36 VDD_2, 37 PA14/JTCK/SWCLK, 38 PA15/JTDI, 39 PB3/JTDO, 40 PB4/JNTRST, 41 PB5, 42 PB6/I2C1_SCL/TIM4_CH1, 43 PB7/I2C1_SDA/TIM4_CH2, 44 BOOT0, 45 PB8/TIM4_CH3, 46 PB9/TIM4_CH4, 47 VSS_3, 48 VDD_3
2 alternate drawings of the same symbol

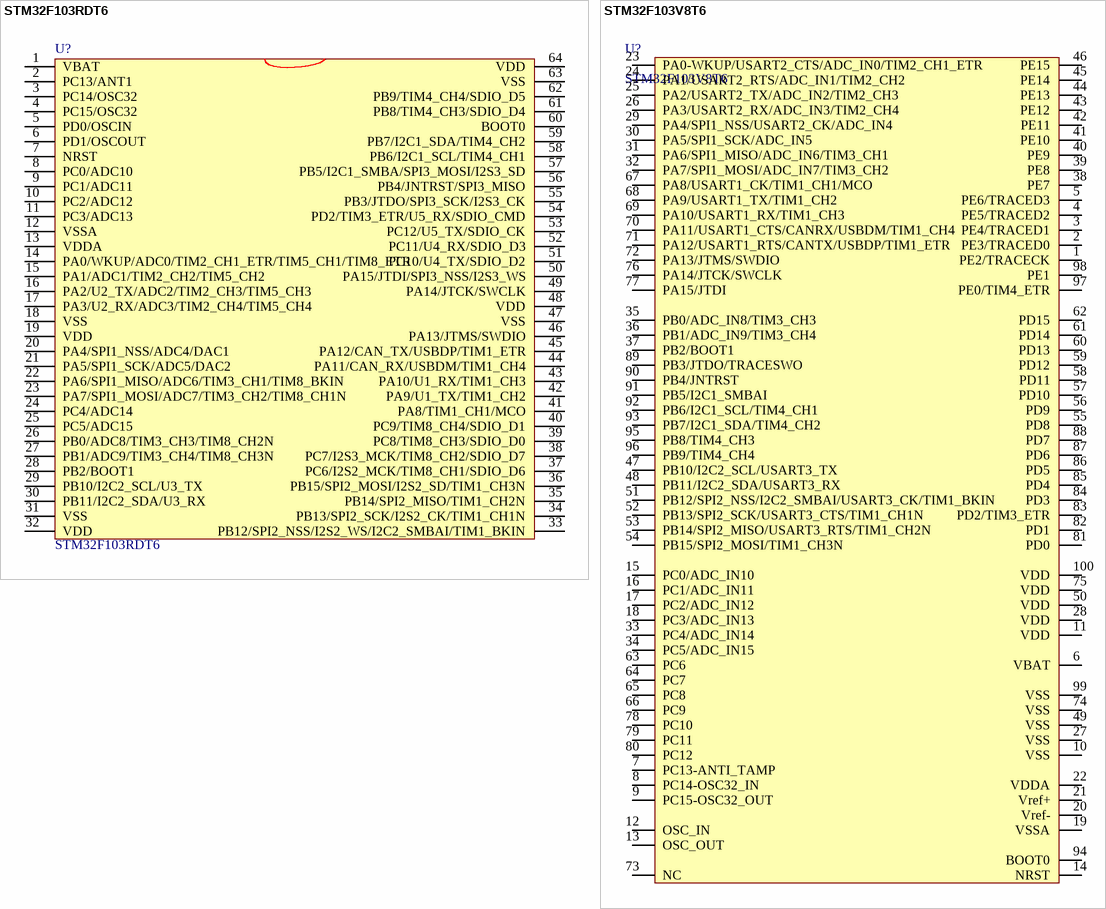
[diagram p7: symbols STM32F103RDT6 to STM32F103V8T6]

## STM32F103RDT6
designator U?
footprint LQFP64
pins: 1 VBAT, 2 PC13/ANT1, 3 PC14/OSC32, 4 PC15/OSC32, 5 PD0/OSCIN, 6 PD1/OSCOUT, 7 NRST, 8 PC0/ADC10, 9 PC1/ADC11, 10 PC2/ADC12, 11 PC3/ADC13, 12 VSSA, 13 VDDA, 14 PA0/WKUP/ADC0/TIM2_CH1_ETR/TIM5_CH1/TIM8_ETR, 15 PA1/ADC1/TIM2_CH2/TIM5_CH2, 16 PA2/U2_TX/ADC2/TIM2_CH3/TIM5_CH3, 17 PA3/U2_RX/ADC3/TIM2_CH4/TIM5_CH4, 18 VSS, 19 VDD, 20 PA4/SPI1_NSS/ADC4/DAC1, 21 PA5/SPI1_SCK/ADC5/DAC2, 22 PA6/SPI1_MISO/ADC6/TIM3_CH1/TIM8_BKIN, 23 PA7/SPI1_MOSI/ADC7/TIM3_CH2/TIM8_CH1N, 24 PC4/ADC14, 25 PC5/ADC15, 26 PB0/ADC8/TIM3_CH3/TIM8_CH2N, 27 PB1/ADC9/TIM3_CH4/TIM8_CH3N, 28 PB2/BOOT1, 29 PB10/I2C2_SCL/U3_TX, 30 PB11/I2C2_SDA/U3_RX, 31 VSS, 32 VDD, 33 PB12/SPI2_NSS/I2S2_WS/I2C2_SMBAI/TIM1_BKIN, 34 PB13/SPI2_SCK/I2S2_CK/TIM1_CH1N, 35 PB14/SPI2_MISO/TIM1_CH2N, 36 PB15/SPI2_MOSI/I2S2_SD/TIM1_CH3N, 37 PC6/I2S2_MCK/TIM8_CH1/SDIO_D6, 38 PC7/I2S3_MCK/TIM8_CH2/SDIO_D7, 39 PC8/TIM8_CH3/SDIO_D0, 40 PC9/TIM8_CH4/SDIO_D1, 41 PA8/TIM1_CH1/MCO, 42 PA9/U1_TX/TIM1_CH2, 43 PA10/U1_RX/TIM1_CH3, 44 PA11/CAN_RX/USBDM/TIM1_CH4, 45 PA12/CAN_TX/USBDP/TIM1_ETR, 46 PA13/JTMS/SWDIO, 47 VSS, 48 VDD, 49 PA14/JTCK/SWCLK, 50 PA15/JTDI/SPI3_NSS/I2S3_WS, 51 PC10/U4_TX/SDIO_D2, 52 PC11/U4_RX/SDIO_D3, 53 PC12/U5_TX/SDIO_CK, 54 PD2/TIM3_ETR/U5_RX/SDIO_CMD, 55 PB3/JTDO/SPI3_SCK/I2S3_CK, 56 PB4/JNTRST/SPI3_MISO, 57 PB5/I2C1_SMBA/SPI3_MOSI/I2S3_SD, 58 PB6/I2C1_SCL/TIM4_CH1, 59 PB7/I2C1_SDA/TIM4_CH2, 60 BOOT0, 61 PB8/TIM4_CH3/SDIO_D4, 62 PB9/TIM4_CH4/SDIO_D5, 63 VSS, 64 VDD

## STM32F103V8T6
designator U?
footprint LQFP100 (TSQFP, 100-Leads, Body 16.0x16.0mm (max), Pitch 0.50mm, IPC Medium Density)
pins: 1 PE2/TRACECK, 2 PE3/TRACED0, 3 PE4/TRACED1, 4 PE5/TRACED2, 5 PE6/TRACED3, 6 VBAT, 7 PC13-ANTI_TAMP, 8 PC14-OSC32_IN, 9 PC15-OSC32_OUT, 10 VSS, 11 VDD, 12 OSC_IN, 13 OSC_OUT, 14 NRST, 15 PC0/ADC_IN10, 16 PC1/ADC_IN11, 17 PC2/ADC_IN12, 18 PC3/ADC_IN13, 19 VSSA, 20 Vref-, 21 Vref+, 22 VDDA, 23 PA0-WKUP/USART2_CTS/ADC_IN0/TIM2_CH1_ETR, 24 PA1/USART2_RTS/ADC_IN1/TIM2_CH2, 25 PA2/USART2_TX/ADC_IN2/TIM2_CH3, 26 PA3/USART2_RX/ADC_IN3/TIM2_CH4, 27 VSS, 28 VDD, 29 PA4/SPI1_NSS/USART2_CK/ADC_IN4, 30 PA5/SPI1_SCK/ADC_IN5, 31 PA6/SPI1_MISO/ADC_IN6/TIM3_CH1, 32 PA7/SPI1_MOSI/ADC_IN7/TIM3_CH2, 33 PC4/ADC_IN14, 34 PC5/ADC_IN15, 35 PB0/ADC_IN8/TIM3_CH3, 36 PB1/ADC_IN9/TIM3_CH4, 37 PB2/BOOT1, 38 PE7, 39 PE8, 40 PE9, 41 PE10, 42 PE11, 43 PE12, 44 PE13, 45 PE14, 46 PE15, 47 PB10/I2C2_SCL/USART3_TX, 48 PB11/I2C2_SDA/USART3_RX, 49 VSS, 50 VDD, 51 PB12/SPI2_NSS/I2C2_SMBAI/USART3_CK/TIM1_BKIN, 52 PB13/SPI2_SCK/USART3_CTS/TIM1_CH1N, 53 PB14/SPI2_MISO/USART3_RTS/TIM1_CH2N, 54 PB15/SPI2_MOSI/TIM1_CH3N, 55 PD8, 56 PD9, 57 PD10, 58 PD11, 59 PD12, 60 PD13, 61 PD14, 62 PD15, 63 PC6, 64 PC7, 65 PC8, 66 PC9, 67 PA8/USART1_CK/TIM1_CH1/MCO, 68 PA9/USART1_TX/TIM1_CH2, 69 PA10/USART1_RX/TIM1_CH3, 70 PA11/USART1_CTS/CANRX/USBDM/TIM1_CH4, 71 PA12/USART1_RTS/CANTX/USBDP/TIM1_ETR, 72 PA13/JTMS/SWDIO, 73 NC, 74 VSS, 75 VDD, 76 PA14/JTCK/SWCLK, 77 PA15/JTDI, 78 PC10, 79 PC11, 80 PC12, 81 PD0, 82 PD1, 83 PD2/TIM3_ETR, 84 PD3, 85 PD4, 86 PD5, 87 PD6, 88 PD7, 89 PB3/JTDO/TRACESWO, 90 PB4/JNTRST, 91 PB5/I2C1_SMBAI, 92 PB6/I2C1_SCL/TIM4_CH1, 93 PB7/I2C1_SDA/TIM4_CH2, 94 BOOT0, 95 PB8/TIM4_CH3, 96 PB9/TIM4_CH4, 97 PE0/TIM4_ETR, 98 PE1, 99 VSS, 100 VDD

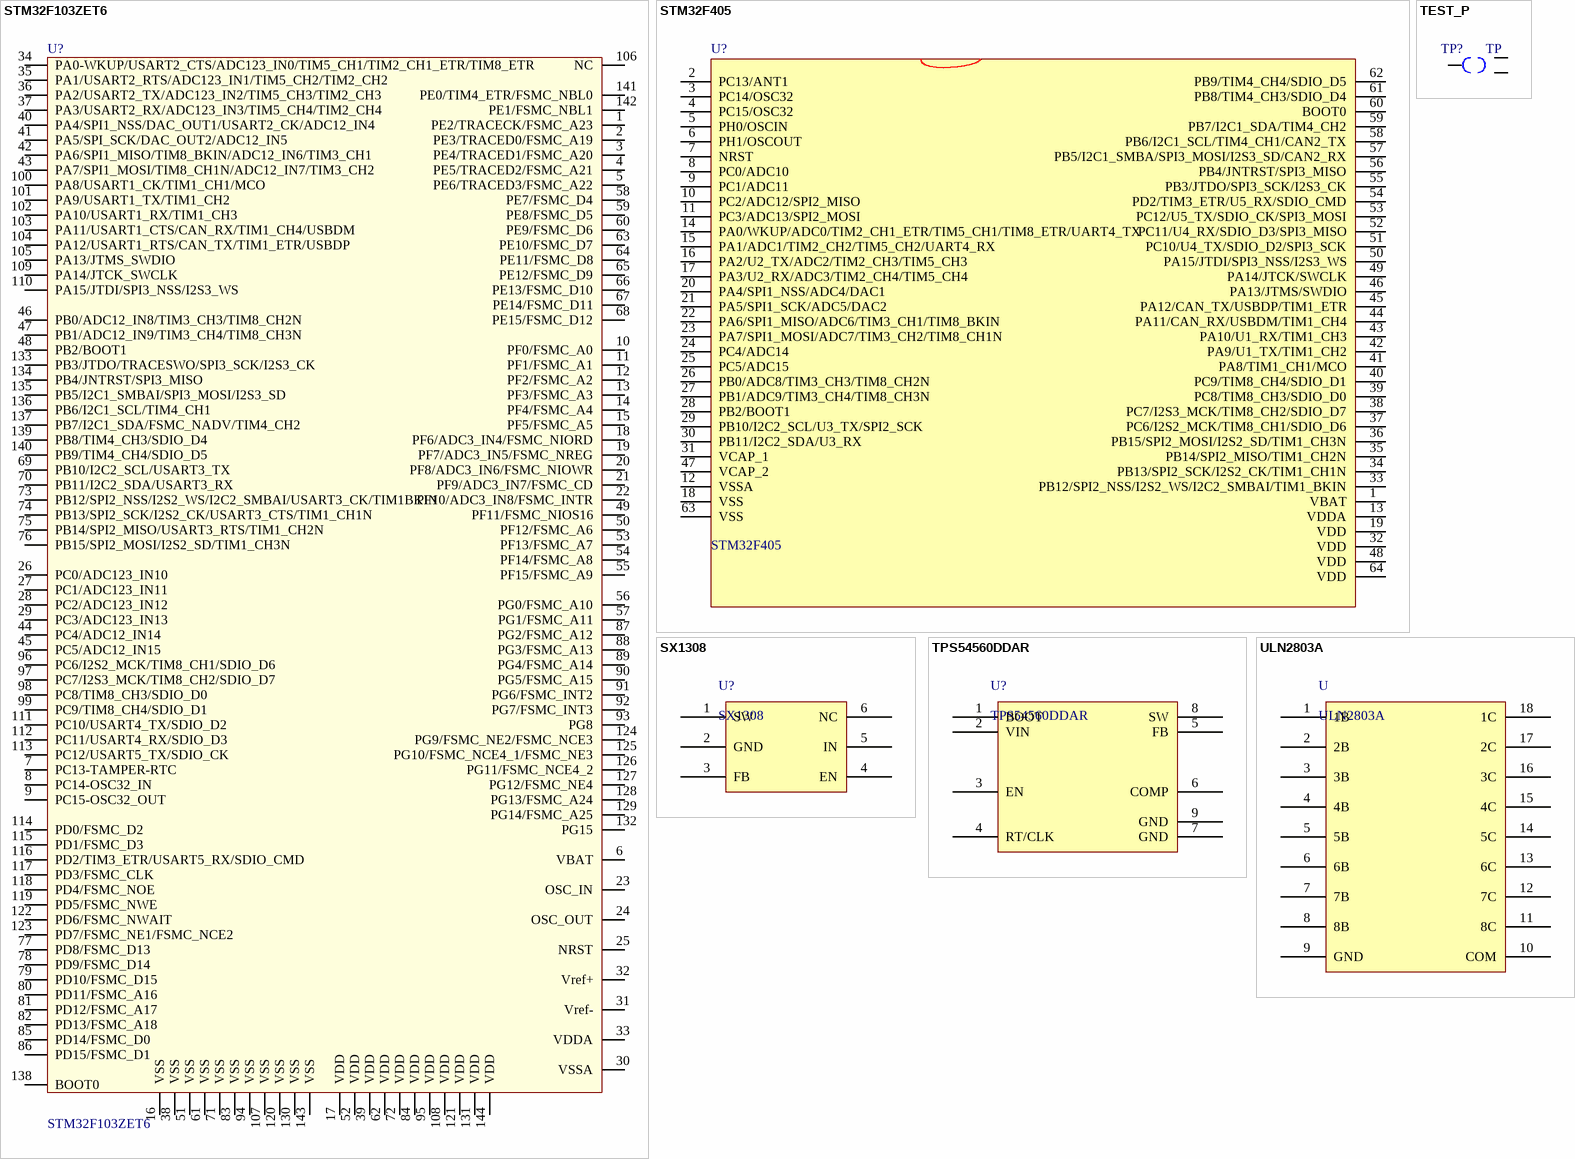
[diagram p8: symbols STM32F103ZET6 to ULN2803A]

## STM32F103ZET6
designator U?
footprint LQFP144
pins: 1 PE2/TRACECK/FSMC_A23, 2 PE3/TRACED0/FSMC_A19, 3 PE4/TRACED1/FSMC_A20, 4 PE5/TRACED2/FSMC_A21, 5 PE6/TRACED3/FSMC_A22, 6 VBAT, 7 PC13-TAMPER-RTC, 8 PC14-OSC32_IN, 9 PC15-OSC32_OUT, 10 PF0/FSMC_A0, 11 PF1/FSMC_A1, 12 PF2/FSMC_A2, 13 PF3/FSMC_A3, 14 PF4/FSMC_A4, 15 PF5/FSMC_A5, 16 VSS, 17 VDD, 18 PF6/ADC3_IN4/FSMC_NIORD, 19 PF7/ADC3_IN5/FSMC_NREG, 20 PF8/ADC3_IN6/FSMC_NIOWR, 21 PF9/ADC3_IN7/FSMC_CD, 22 PF10/ADC3_IN8/FSMC_INTR, 23 OSC_IN, 24 OSC_OUT, 25 NRST, 26 PC0/ADC123_IN10, 27 PC1/ADC123_IN11, 28 PC2/ADC123_IN12, 29 PC3/ADC123_IN13, 30 VSSA, 31 Vref-, 32 Vref+, 33 VDDA, 34 PA0-WKUP/USART2_CTS/ADC123_IN0/TIM5_CH1/TIM2_CH1_ETR/TIM8_ETR, 35 PA1/USART2_RTS/ADC123_IN1/TIM5_CH2/TIM2_CH2, 36 PA2/USART2_TX/ADC123_IN2/TIM5_CH3/TIM2_CH3, 37 PA3/USART2_RX/ADC123_IN3/TIM5_CH4/TIM2_CH4, 38 VSS, 39 VDD, 40 PA4/SPI1_NSS/DAC_OUT1/USART2_CK/ADC12_IN4, 41 PA5/SPI_SCK/DAC_OUT2/ADC12_IN5, 42 PA6/SPI1_MISO/TIM8_BKIN/ADC12_IN6/TIM3_CH1, 43 PA7/SPI1_MOSI/TIM8_CH1N/ADC12_IN7/TIM3_CH2, 44 PC4/ADC12_IN14, 45 PC5/ADC12_IN15, 46 PB0/ADC12_IN8/TIM3_CH3/TIM8_CH2N, 47 PB1/ADC12_IN9/TIM3_CH4/TIM8_CH3N, 48 PB2/BOOT1, 49 PF11/FSMC_NIOS16, 50 PF12/FSMC_A6, 51 VSS, 52 VDD, 53 PF13/FSMC_A7, 54 PF14/FSMC_A8, 55 PF15/FSMC_A9, 56 PG0/FSMC_A10, 57 PG1/FSMC_A11, 58 PE7/FSMC_D4, 59 PE8/FSMC_D5, 60 PE9/FSMC_D6, 61 VSS, 62 VDD, 63 PE10/FSMC_D7, 64 PE11/FSMC_D8, 65 PE12/FSMC_D9, 66 PE13/FSMC_D10, 67 PE14/FSMC_D11, 68 PE15/FSMC_D12, 69 PB10/I2C2_SCL/USART3_TX, 70 PB11/I2C2_SDA/USART3_RX, 71 VSS, 72 VDD, 73 PB12/SPI2_NSS/I2S2_WS/I2C2_SMBAI/USART3_CK/TIM1BKIN, 74 PB13/SPI2_SCK/I2S2_CK/USART3_CTS/TIM1_CH1N, 75 PB14/SPI2_MISO/USART3_RTS/TIM1_CH2N, 76 PB15/SPI2_MOSI/I2S2_SD/TIM1_CH3N, 77 PD8/FSMC_D13, 78 PD9/FSMC_D14, 79 PD10/FSMC_D15, 80 PD11/FSMC_A16, 81 PD12/FSMC_A17, 82 PD13/FSMC_A18, 83 VSS, 84 VDD, 85 PD14/FSMC_D0, 86 PD15/FSMC_D1, 87 PG2/FSMC_A12, 88 PG3/FSMC_A13, 89 PG4/FSMC_A14, 90 PG5/FSMC_A15, 91 PG6/FSMC_INT2, 92 PG7/FSMC_INT3, 93 PG8, 94 VSS, 95 VDD, 96 PC6/I2S2_MCK/TIM8_CH1/SDIO_D6, 97 PC7/I2S3_MCK/TIM8_CH2/SDIO_D7, 98 PC8/TIM8_CH3/SDIO_D0, 99 PC9/TIM8_CH4/SDIO_D1, 100 PA8/USART1_CK/TIM1_CH1/MCO, 101 PA9/USART1_TX/TIM1_CH2, 102 PA10/USART1_RX/TIM1_CH3, 103 PA11/USART1_CTS/CAN_RX/TIM1_CH4/USBDM, 104 PA12/USART1_RTS/CAN_TX/TIM1_ETR/USBDP, 105 PA13/JTMS_SWDIO, 106 NC, 107 VSS, 108 VDD, 109 PA14/JTCK_SWCLK, 110 PA15/JTDI/SPI3_NSS/I2S3_WS, 111 PC10/USART4_TX/SDIO_D2, 112 PC11/USART4_RX/SDIO_D3, 113 PC12/USART5_TX/SDIO_CK, 114 PD0/FSMC_D2, 115 PD1/FSMC_D3, 116 PD2/TIM3_ETR/USART5_RX/SDIO_CMD, 117 PD3/FSMC_CLK, 118 PD4/FSMC_NOE, 119 PD5/FSMC_NWE, 120 VSS, 121 VDD, 122 PD6/FSMC_NWAIT, 123 PD7/FSMC_NE1/FSMC_NCE2, 124 PG9/FSMC_NE2/FSMC_NCE3, 125 PG10/FSMC_NCE4_1/FSMC_NE3, 126 PG11/FSMC_NCE4_2, 127 PG12/FSMC_NE4, 128 PG13/FSMC_A24, 129 PG14/FSMC_A25, 130 VSS, 131 VDD, 132 PG15, 133 PB3/JTDO/TRACESWO/SPI3_SCK/I2S3_CK, 134 PB4/JNTRST/SPI3_MISO, 135 PB5/I2C1_SMBAI/SPI3_MOSI/I2S3_SD, 136 PB6/I2C1_SCL/TIM4_CH1, 137 PB7/I2C1_SDA/FSMC_NADV/TIM4_CH2, 138 BOOT0, 139 PB8/TIM4_CH3/SDIO_D4, 140 PB9/TIM4_CH4/SDIO_D5, 141 PE0/TIM4_ETR/FSMC_NBL0, 142 PE1/FSMC_NBL1, 143 VSS, 144 VDD

## STM32F405
designator U?
footprint LQFP64
pins: 1 VBAT, 2 PC13/ANT1, 3 PC14/OSC32, 4 PC15/OSC32, 5 PH0/OSCIN, 6 PH1/OSCOUT, 7 NRST, 8 PC0/ADC10, 9 PC1/ADC11, 10 PC2/ADC12/SPI2_MISO, 11 PC3/ADC13/SPI2_MOSI, 12 VSSA, 13 VDDA, 14 PA0/WKUP/ADC0/TIM2_CH1_ETR/TIM5_CH1/TIM8_ETR/UART4_TX, 15 PA1/ADC1/TIM2_CH2/TIM5_CH2/UART4_RX, 16 PA2/U2_TX/ADC2/TIM2_CH3/TIM5_CH3, 17 PA3/U2_RX/ADC3/TIM2_CH4/TIM5_CH4, 18 VSS, 19 VDD, 20 PA4/SPI1_NSS/ADC4/DAC1, 21 PA5/SPI1_SCK/ADC5/DAC2, 22 PA6/SPI1_MISO/ADC6/TIM3_CH1/TIM8_BKIN, 23 PA7/SPI1_MOSI/ADC7/TIM3_CH2/TIM8_CH1N, 24 PC4/ADC14, 25 PC5/ADC15, 26 PB0/ADC8/TIM3_CH3/TIM8_CH2N, 27 PB1/ADC9/TIM3_CH4/TIM8_CH3N, 28 PB2/BOOT1, 29 PB10/I2C2_SCL/U3_TX/SPI2_SCK, 30 PB11/I2C2_SDA/U3_RX, 31 VCAP_1, 32 VDD, 33 PB12/SPI2_NSS/I2S2_WS/I2C2_SMBAI/TIM1_BKIN, 34 PB13/SPI2_SCK/I2S2_CK/TIM1_CH1N, 35 PB14/SPI2_MISO/TIM1_CH2N, 36 PB15/SPI2_MOSI/I2S2_SD/TIM1_CH3N, 37 PC6/I2S2_MCK/TIM8_CH1/SDIO_D6, 38 PC7/I2S3_MCK/TIM8_CH2/SDIO_D7, 39 PC8/TIM8_CH3/SDIO_D0, 40 PC9/TIM8_CH4/SDIO_D1, 41 PA8/TIM1_CH1/MCO, 42 PA9/U1_TX/TIM1_CH2, 43 PA10/U1_RX/TIM1_CH3, 44 PA11/CAN_RX/USBDM/TIM1_CH4, 45 PA12/CAN_TX/USBDP/TIM1_ETR, 46 PA13/JTMS/SWDIO, 47 VCAP_2, 48 VDD, 49 PA14/JTCK/SWCLK, 50 PA15/JTDI/SPI3_NSS/I2S3_WS, 51 PC10/U4_TX/SDIO_D2/SPI3_SCK, 52 PC11/U4_RX/SDIO_D3/SPI3_MISO, 53 PC12/U5_TX/SDIO_CK/SPI3_MOSI, 54 PD2/TIM3_ETR/U5_RX/SDIO_CMD, 55 PB3/JTDO/SPI3_SCK/I2S3_CK, 56 PB4/JNTRST/SPI3_MISO, 57 PB5/I2C1_SMBA/SPI3_MOSI/I2S3_SD/CAN2_RX, 58 PB6/I2C1_SCL/TIM4_CH1/CAN2_TX, 59 PB7/I2C1_SDA/TIM4_CH2, 60 BOOT0, 61 PB8/TIM4_CH3/SDIO_D4, 62 PB9/TIM4_CH4/SDIO_D5, 63 VSS, 64 VDD

## SX1308
designator U?
footprint SOT23-6(DBV)
pins: 1 SW, 2 GND, 3 FB, 4 EN, 5 IN, 6 NC

## TEST_P
designator TP?, comment TP
TEST_3P
footprint TEST_P
pins: 1, 2, 3

## TPS54560DDAR
designator U?
pins: 1 BOOT, 2 VIN, 3 EN, 4 RT/CLK, 5 FB, 6 COMP, 7 GND, 8 SW, 9 GND

## ULN2803A
designator U
footprint SSOP18 (Footprint not found)
pins: 1 1B, 2 2B, 3 3B, 4 4B, 5 5B, 6 6B, 7 7B, 8 8B, 9 GND, 10 COM, 11 8C, 12 7C, 13 6C, 14 5C, 15 4C, 16 3C, 17 2C, 18 1C